# Altium footprint library PWR_JACK_HDR.PcbLib: 1 footprints
Each footprint in its own frame and in the unit in brackets; x right, y up, seen from the top. Pads: shape width x height; smd on the part's side, far side on the other; paste and mask are expansions set on the pad; w line width, h text height; cw(c..) or ccw(c..) is an arc to the next point about the centre after c.
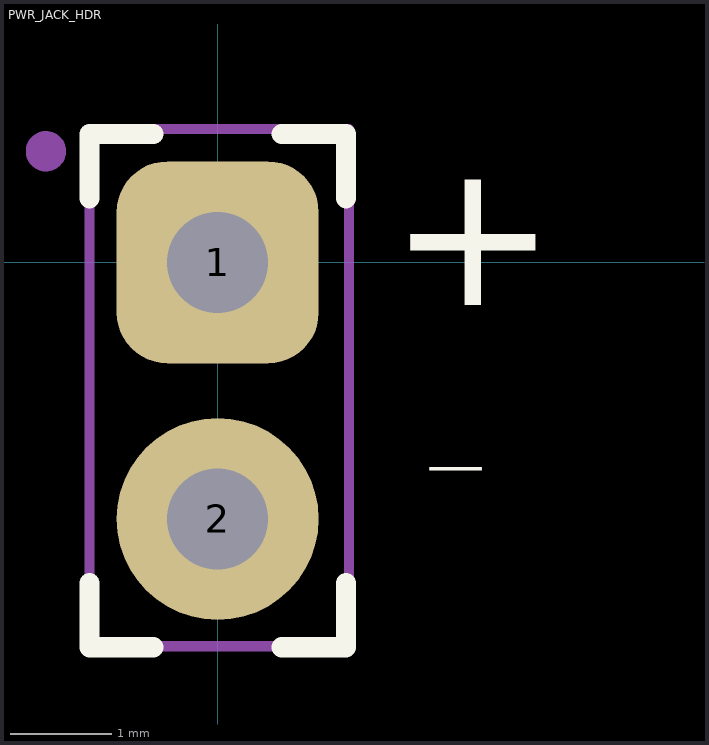
[diagram p0: the footprint, top view; thin cyan lines are the x and y axes]

## PWR_JACK_HDR [mm] "DC Power Jack Connector, Header Connections"
height 1
pads (2):
  rrect50% 2x2 / inner round 2 / far side rrect50% 2x2 hole 1: 1(0,0)
  round 2 hole 1: 2(0,-2.54)
Top Overlay:
  lines w0.2: -1.27,-3.175 -1.27,-3.81 -0.635,-3.81 ; -1.27,0.635 -1.27,1.27 -0.635,1.27 ; 0.635,-3.81 1.27,-3.81 1.27,-3.175 ; 0.635,1.27 1.27,1.27 1.27,0.635
  text "-" at 2,-3 h2.5
  text "+" at 1.7,-0.9 h2.5
Mechanical 15:
  circle w0.2: c-1.7,1.1 r0.1
  lines w0.1: -1.27,-3.8 1.3,-3.8 1.3,1.32 -1.27,1.32 -1.27,-3.8
  text ".Designator" at -0.2,0.1 h0.65